# Altium schematic symbol library 三极管和MOS.SchLib: 7 symbols
Pins are listed as number, name and electrical type; pins without a type are passive.

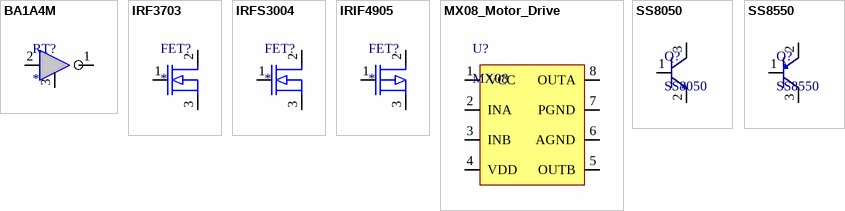
[diagram p0: symbols BA1A4M to SS8550]

## BA1A4M
designator RT?
pins: 1 EMITTER, 2 COLLECTOR, 3 10

## IRF3703
designator FET?
pins: 1 G, 2 D, 3 S

## IRFS3004
designator FET?
pins: 1 G, 2 D, 3 S

## IRIF4905
designator FET?
pins: 1 G, 2 D, 3 S

## MX08_Motor_Drive
designator U?, comment MX08
pins: 1 VCC, 2 INA, 3 INB, 4 VDD, 5 OUTB, 6 AGND, 7 PGND, 8 OUTA

## SS8050
designator Q?
footprint SOT-23
pins: 1 C, 2 B, 3 E

## SS8550
designator Q?
footprint SOT-23
pins: 1 C, 2 B, 3 E